# Altium schematic symbol library 5v DC-DC.SchLib: 1 symbol
Pins are listed as number, name and electrical type; pins without a type are passive.

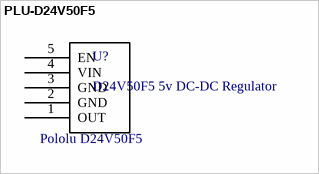
[diagram p0: symbol PLU-D24V50F5]

## PLU-D24V50F5
designator U?, comment D24V50F5 5v DC-DC Regulator
footprint PCBComponent_1
pins: 1 OUT, 2 GND, 3 GND, 4 VIN, 5 EN
text: Pololu D24V50F5